# EAGLE library part LM4732 (library Audio-Power-amlifier V.2.0)
The LM4732 is a stereo audio amplifier capable of typically delivering 50W per channel of continuous average output power into a 4Ω or 8Ω load with less than 10% THD+N from 20Hz - 20kHz
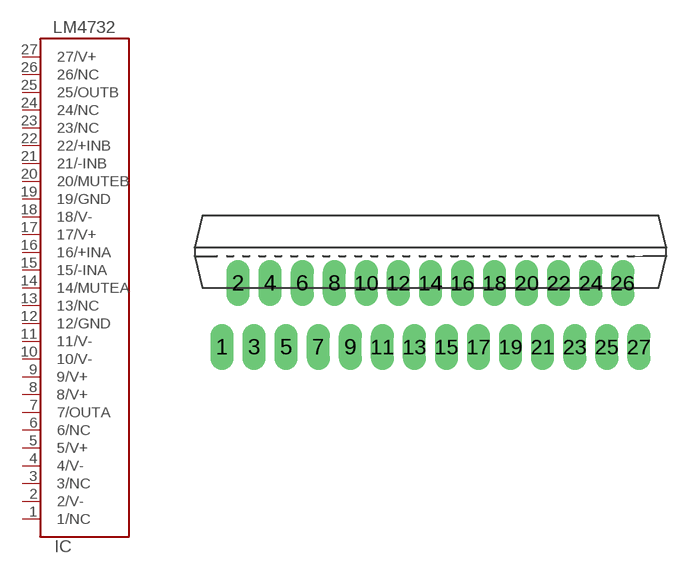
[diagram p247: symbol with the pads of TO-220-27TA; footprint TO-220-27TA]

Designator prefix IC

## LM4732  [TO-220-27TA]
1  1/NC  nc
2  2/V-  pwr
3  3/NC  nc
4  4/V-  pwr
5  5/V+  pwr
6  6/NC  nc
7  7/OUTA  out
8  8/V+  pwr
9  9/V+  pwr
10  10/V-  pwr
11  11/V-  pwr
12  12/GND  pwr
13  13/NC  nc
14  14/MUTEA  in
15  15/-INA  in
16  16/+INA  in
17  17/V+  pwr
18  18/V-  pwr
19  19/GND  pwr
20  20/MUTEB  in
21  21/-INB  in
22  22/+INB  in
23  23/NC  nc
24  24/NC  nc
25  25/OUTB  out
26  26/NC  nc
27  27/V+  pwr

## Footprint TO-220-27TA (pad centres in mm)
TO-220_MKT-TA27A , MOLDED (inch. 1,150x0,618x0,177 - body_0,040 pitch )
drill 0.5 pad 1.422 long: 1 -13.007,-3.988; 2 -12.009,0; 3 -11.008,-3.988; 4 -10.008,0; 5 -9.007,-3.988; 6 -8.006,0; 7 -7.005,-3.988; 8 -6.002,0; 9 -5.004,-3.988; 10 -4.003,0; 11 -3.002,-3.988; 12 -1.999,0; 13 -1.001,-3.99; 14 0,0; 15 1.001,-3.988; 16 2.002,0; 17 3.002,-3.988; 18 4.003,0; 19 5.004,-3.988; 20 6.007,0; 21 7.005,-3.988; 22 8.006,0; 23 9.009,-3.988; 24 10.008,0; 25 11.008,-3.988; 26 12.009,0; 27 13.01,-3.988